# Altium footprint library R_0603.PCBLIB: 1 footprints
Each footprint in its own frame and in the unit in brackets; x right, y up, seen from the top. Pads: shape width x height; smd on the part's side, far side on the other; paste and mask are expansions set on the pad; w line width, h text height; cw(c..) or ccw(c..) is an arc to the next point about the centre after c.
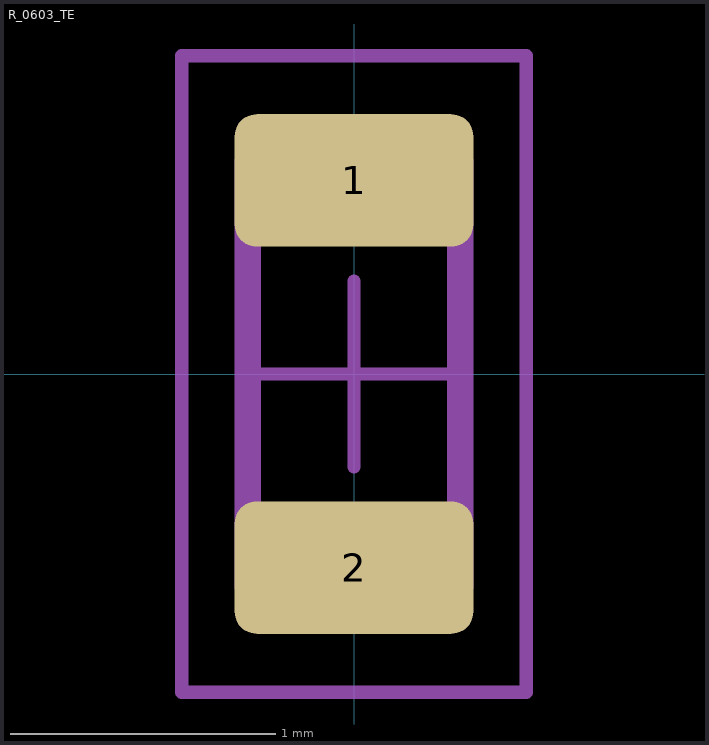
[diagram p0: the footprint, top view; thin cyan lines are the x and y axes]

## R_0603_TE [mm] "Vishay D0603 1.55 x 0.85 (+0.1/-0.05) 0.3 +/- 0,2mm Kontakte"
height 0.5
pads (2):
  rrect33% 0.9x0.5 smd: 1(0,0.73) 2(0,-0.73)
Top Assembly:
  lines w0.1: -0.4,-0.55 0.4,-0.55 ; -0.4,0.55 0.4,0.55 ; -0.4,-0.8 -0.4,0.8 0.4,0.8 0.4,-0.8 -0.4,-0.8
Top Courtyard:
  lines w0.05: -0.65,-1.2 0.65,-1.2 0.65,1.2 -0.65,1.2 -0.65,-1.2
Top Designator:
  text ".Designator" at 0.35,1 h0.7
Top Component Center:
  lines w0.05: -0.35,0 0.35,0 ; 0,-0.35 0,0.35
3D body "User Library-RESC1608X05N.STEP": height 0.45, standoff 0, extent -0.425,-0.775 0.425,0.775